# Altium integrated library Bridge Rectifiers.IntLib: 2 symbols
Pins are listed as number, name and electrical type; pins without a type are passive.

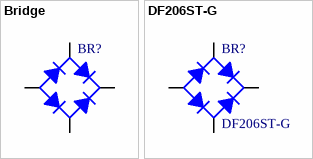
[diagram p0: symbols Bridge to DF206ST-G]

## Bridge
designator BR?
Bridge Rectifier; Populated: Yes; Package Quantity: 1; Packaging: Tape and Reel; Lead Free: Lead Free; ROHS: Yes
footprint DF206ST-G
footprint 1KAB
footprint 2KBB
footprint 2KBB-R
footprint 2KBP
footprint B-DIL
footprint B40S
footprint DB
footprint DBS
footprint DSI32A
footprint FB15
footprint FB15A
footprint FB32
footprint FB100
footprint FBM
footprint FBU4
footprint GBPC1
footprint GBPC6
footprint GBPC8
footprint GBPC80X
footprint GBU4
footprint GBU4S
footprint KBL
footprint KBPC-T
footprint KBU
footprint MBFL
footprint RB1A
footprint S41
footprint S51
footprint SKB
footprint SKB32
footprint SKB50
footprint SKBB
footprint SOIC-4
footprint TO-269AA
pins: +, - A, AC1, AC2

## DF206ST-G
designator BR?
BRIDGE RECTIFIER 600V 2A DFS; Manufacturer: Comchip; Supplier 1: Digi-Key; Manufacturer Part Number: DF206ST-G; Stock 1: 17062; Pricing 1: 1=0.66, 10=0.556, 25=0.4868, 100=0.4172, 250=0.3615, 500=0.3059 (USD); Mount: Surface Mount; Case/Package: SMD/SMT; Number of Pins: 4; Package Quantity: 1; Packaging: Tape and Reel; Lead Free: Lead Free; ComponentLink1URL: https://datasheet.ciiva.com/886/df2005s-gthru340652-df210s-grevf-886201.pdf; ComponentLink1Description: https://datasheet.ciiva.com/886/df2005s-gthru340652-df210s-grevf-886201.pdf; ComponentLink2URL: https://datasheet.ciiva.com/886/df2005s-gthru340652-df210s-grevf-886202.pdf; ComponentLink2Description: https://datasheet.ciiva.com/886/df2005s-gthru340652-df210s-grevf-886202.pdf; ComponentLink3URL: https://datasheet.ciiva.com/886/df2005s-gthru340652-df210s-grevf-886203.pdf; ComponentLink3Description: https://datasheet.ciiva.com/886/df2005s-gthru340652-df210s-grevf-886203.pdf; Supplier Part Number 1: 641-1425-6-ND; Value: DF206ST-G
footprint DF206ST-G
pins: +, - A, AC1, AC2